# EAGLE library part BERG_6 (library drag-custom)
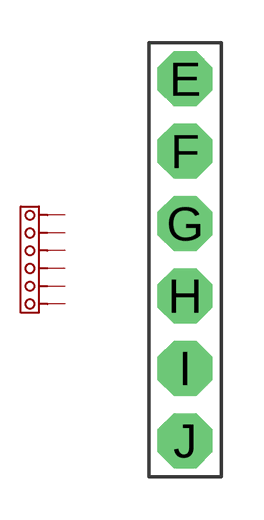
[diagram p7: symbol with the pads of BERG_6; footprint BERG_6]

Designator prefix -

## BERG_6  [BERG_6]
E  P$1
F  P$2
G  P$3
H  P$4
I  P$5
J  P$6

## Footprint BERG_6 (pad centres in mm)
drill 1 pad 1.93 octagon: E 0,7.62; F 0,5.08; G 0,2.54; H 0,0; I 0,-2.54; J 0,-5.08